# Altium footprint library capacitor_murata_0201.PcbLib: 1 footprints
Each footprint in its own frame and in the unit in brackets; x right, y up, seen from the top. Pads: shape width x height; smd on the part's side, far side on the other; paste and mask are expansions set on the pad; w line width, h text height; cw(c..) or ccw(c..) is an arc to the next point about the centre after c.
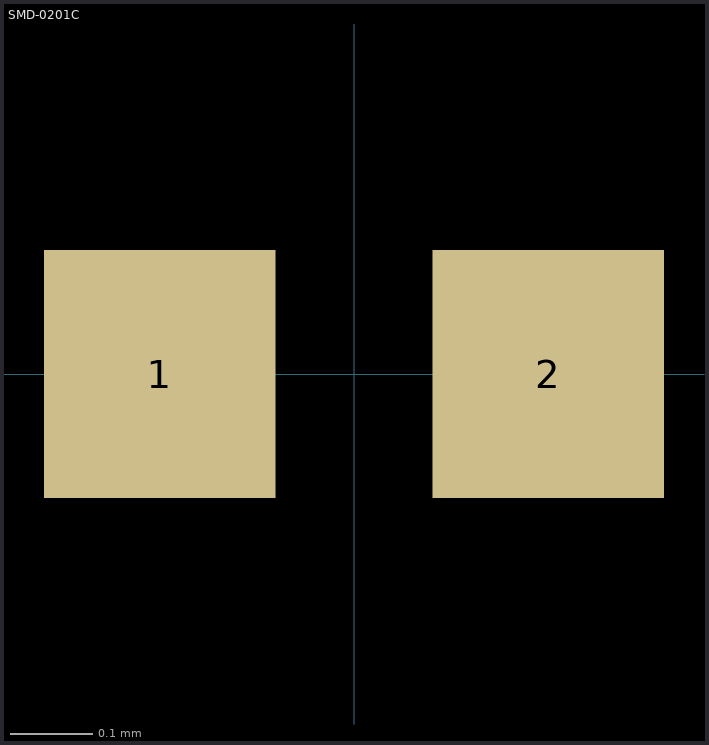
[diagram p0: the footprint, top view; thin cyan lines are the x and y axes]

## SMD-0201C [mm] "SMD-0201"
height 0.25
pads (2):
  rect 0.28x0.3 smd: 1(-0.235,0) 2(0.235,0)
3D body "User Library-Chip Cap_MLCC_0201 (0603).step": height 0.3, standoff 0, extent -0.3,-0.152 0.3,0.148